# EAGLE library part SWD-FLASH-HEADER-MIN (library Headers)
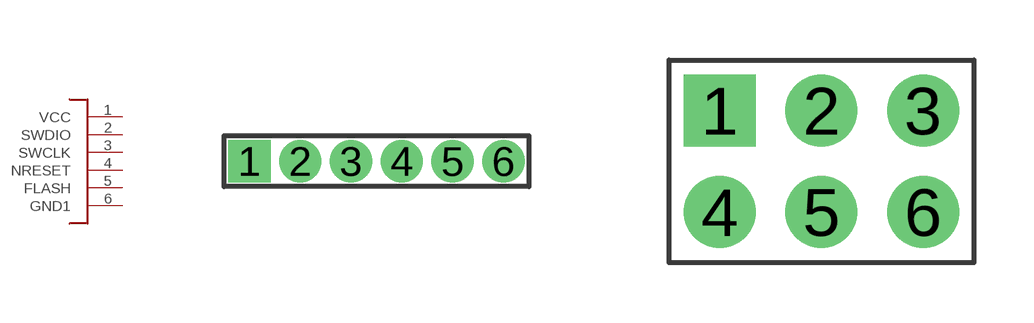
[diagram p6: symbol with the pads of HEADER-6X1-1.27; footprints HEADER-6X1-1.27, HEADER-3X2-2.54]

Designator prefix J

## SWD-FLASH-HEADER-MIN-6X1-1.27  [HEADER-6X1-1.27]
1  VCC
2  SWDIO
3  SWCLK
4  NRESET
5  FLASH
6  GND1

## SWD-FLASH-HEADER-MIN-3X2-2.54  [HEADER-3X2-2.54]
1  GND1
2  VCC
3  SWDIO
4  NRESET
5  FLASH
6  SWCLK

## SWD-FLASH-HEADER-MIN-6X1-2.54  [HEADER-6X1-2.54]
Pads as for HEADER-6X1-1.27

## Footprint HEADER-6X1-1.27 (pad centres in mm)
5 pin 0.1" header
drill 0.55 square: 1 -3.175,0
drill 0.55: 2 -1.905,0; 3 -0.635,0; 4 0.635,0; 5 1.905,0; 6 3.175,0

## Footprint HEADER-3X2-2.54 (pad centres in mm)
5 pin 0.1" header
drill 1.05 pad 1.8 square: 1 -2.54,1.27
drill 1.05 pad 1.8: 2 0,1.27; 3 2.54,1.27; 4 -2.54,-1.27; 5 0,-1.27; 6 2.54,-1.27

## Footprint HEADER-6X1-2.54 (pad centres in mm)
5 pin 0.1" header
drill 1.1 pad 2 square: 1 -6.35,0
drill 1.1 pad 2: 2 -3.81,0; 3 -1.27,0; 4 1.27,0; 5 3.81,0; 6 6.35,0